# Altium schematic symbol library Chip Resistor - Surface Mount.SchLib: 8 symbols
Pins are listed as number, name and electrical type; pins without a type are passive.

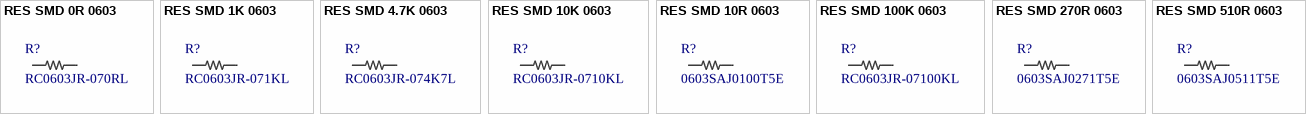
[diagram p0: symbols RES SMD 0R 0603 to RES SMD 510R 0603]

## RES SMD 0R 0603
designator R?, comment RC0603JR-070RL
Zero Ohm Resistor, Jumper, 0603 [1608 Metric], Thick Film, 100 mW, 1 A, Surface Mount; Manufacturer: Yageo; Resistance: 0mR; Tolerance: 1%; Power Rating: 100mW; Voltage Rating (DC): 50V; Temperature Coefficient: 200ppm/°C; Resistance Tolerance: 5%; Designed: Ferdi; Supplier 1: Digi-Key; Manufacturer Part Number: RC0603JR-070RL; RoHS: Yes; Category: Chip SMD Resistors; Stock 1: 445569; Pricing 1: 1=0,1, 10=0,015, 25=0,0112, 50=0,0086, 100=0,006, 250=0,0048, 500=0,00386, 1000=0,00284 (USD); Case/Package: 0603; Number of Pins: 2; Contact Plating: Tin,Matte; Case Code (Imperial): 0603; Case Code (Metric): 1608; Size Code: 0603; Min Operating Temperature: -55°C; Max Operating Temperature: 155°C; Resistor Type: Thick Film; Packaging: Tape and Reel; Termination: SMD/SMT; Series: RC; Technology: THICK FILM; Package Quantity: 5000; Voltage Rating: 50V; Features: Moisture Resistant; Max Power Dissipation: 100mW; Number of Terminations: 2; Construction: Rectangular; Length: 1.6mm; Width: 0.8mm; Height: 0.45mm; Depth: 0.8mm; RoHS Compliant: Yes; Reach SVHC Compliant: Unknown; Lead Free: 5697LeadFree; Military Standard: Not; Supplier Part Number 1: 311-0.0GRCT-ND
footprint R0603 (Surface Mount Resıstor)
pins: 1, 2

## RES SMD 1K 0603
designator R?, comment RC0603JR-071KL
SMD Chip Resistor, 1 kOhm, ± 5%, 100 mW, 0603 [1608 Metric], Thick Film, General Purpose; Manufacturer: Yageo; Resistance: 1kR; Temperature Coefficient: 100ppm/°C; Voltage Rating (DC): 50V; Power Rating: 100mW; Body Length: 1.6mm; Designed: Ferdi; Supplier 1: Digi-Key; Manufacturer Part Number: RC0603JR-071KL; RoHS: Yes; Category: Chip SMD Resistors; Stock 1: 1364040; Pricing 1: 1=0,1, 10=0,015, 50=0,0092, 100=0,0076, 500=0,00512, 1000=0,00437 (USD); Case/Package: 0603; Number of Pins: 2; Contact Plating: Tin,Matte; Case Code (Imperial): 0603; Case Code (Metric): 1608; Size Code: 0603; Min Operating Temperature: -55°C; Max Operating Temperature: 155°C; Tolerance: 5%; Resistor Type: Thick Film; Packaging: Tape and Reel; Package Quantity: 5000; Voltage Rating: 50V; Termination: SMD/SMT; Series: RC; Resistance Tolerance: 5%; Construction: Rectangular; Max Power Dissipation: 100mW; Number of Terminations: 2; Voltage Rating (AC): 50V; Length: 1.6mm; Width: 0.8mm; Height: 0.45mm; Depth: 0.8mm; Reach SVHC Compliant: No; Lead Free: 5697LeadFree; Military Standard: Not; RoHS Compliant: Yes; Supplier Part Number 1: 311-1.0KGRCT-ND
footprint R0603 (Surface Mount Resıstor)
pins: 1, 2

## RES SMD 4.7K 0603
designator R?, comment RC0603JR-074K7L
SMD Chip Resistor, 4.7 kOhm, ± 5%, 100 mW, 0603 [1608 Metric], Thick Film, General Purpose; Manufacturer: Yageo; Voltage Rating (DC): 50V; Resistance: 4.7kR; Temperature Coefficient: 100ppm/°C; Power Rating: 100mW; Designed: Ferdi; Supplier 1: Digi-Key; Manufacturer Part Number: RC0603JR-074K7L; RoHS: Yes; Category: Chip SMD Resistors; Stock 1: 6637574; Pricing 1: 1=0,1, 10=0,015, 50=0,0092, 100=0,0076, 500=0,00512, 1000=0,00437 (USD); Case/Package: 0603; Number of Pins: 2; Case Code (Imperial): 0603; Case Code (Metric): 1608; Size Code: 0603; Min Operating Temperature: -55°C; Max Operating Temperature: 155°C; Resistor Type: Thick Film; Tolerance: 5%; Packaging: Tape and Reel; Voltage Rating: 50V; Termination: SMD/SMT; Features: Moisture Resistant; Max Power Dissipation: 100mW; Number of Terminations: 2; Series: RC; Resistance Tolerance: 5%; Construction: Rectangular; Voltage Rating (AC): 50V; Length: 1.6mm; Width: 0.8mm; Depth: 0.8mm; Reach SVHC Compliant: No; RoHS Compliant: Yes; Military Standard: Not; ComponentLink1URL: https://datasheet.ciiva.com/46412/443971-46412858.pdf?src-supplier=Element14; ComponentLink1Description: https://datasheet.ciiva.com/46412/443971-46412858.pdf?src-supplier=Element14; Supplier Part Number 1: 311-4.7KGRCT-ND
footprint R0603 (Surface Mount Resıstor)
pins: 1, 2

## RES SMD 10K 0603
designator R?, comment RC0603JR-0710KL
SMD Chip Resistor, 10 kOhm, ± 5%, 100 mW, 0603 [1608 Metric], Thick Film, General Purpose; Manufacturer: Yageo; Resistance: 10kR; Temperature Coefficient: 100ppm/°C; Max Power Dissipation: 100mW; Voltage Rating (AC): 50V; Designed: Ferdi; Supplier 1: Digi-Key; Manufacturer Part Number: RC0603JR-0710KL; RoHS: Yes; Category: Chip SMD Resistors; Stock 1: 3680045; Pricing 1: 1=0,1, 10=0,015, 50=0,0092, 100=0,0076, 500=0,00512, 1000=0,00437 (USD); Case/Package: 0603; Min Operating Temperature: -55°C; Max Operating Temperature: 155°C; Tolerance: 5%; Number of Terminations: 2; Series: RC; Reach SVHC Compliant: 4187SVHC; Lead Free: 5697LeadFree; RoHS Compliant: Yes; ComponentLink1URL: https://datasheet.ciiva.com/2452/pyu-rc-group-51-rohs-l-10-2452848.pdf?src-supplier=Digi-Key; ComponentLink1Description: https://datasheet.ciiva.com/2452/pyu-rc-group-51-rohs-l-10-2452848.pdf?src-supplier=Digi-Key; Supplier Part Number 1: 311-10KGRCT-ND
footprint R0603 (Surface Mount Resıstor)
pins: 1, 2

## RES SMD 10R 0603
designator R?, comment 0603SAJ0100T5E
SMD Resistor Dimensions L x W x H: 1.6 x 0.8 x 0.45 mm Temperature range: -55 ... 155 °C Construction form: 0603...; Manufacturer: Royal Electronic Factory; Designed: Ferdi; Supplier 1: Mouser; Manufacturer Part Number: 0603SAJ0100T5E; RoHS: Yes; Pricing 1: 10000=0,001 (USD); ComponentLink1URL: https://datasheet.octopart.com/0603SAJ0100T5E-Royal-Ohm-datasheet-165785611.pdf?src-supplier=TME; ComponentLink1Description: https://datasheet.octopart.com/0603SAJ0100T5E-Royal-Ohm-datasheet-165785611.pdf?src-supplier=TME; Supplier Part Number 1: 303-0603SAJ0100T5E
footprint R0603 (Surface Mount Resıstor)
pins: 1, 2

## RES SMD 100K 0603
designator R?, comment RC0603JR-07100KL
SMD Chip Resistor, 100 kOhm, ± 5%, 100 mW, 0603 [1608 Metric], Thick Film, General Purpose; Manufacturer: Yageo; Resistance: 100kR; Temperature Coefficient: 100ppm/°C; Voltage Rating: 50V; Power Rating: 100mW; Designed: Ferdi; Supplier 1: Digi-Key; Manufacturer Part Number: RC0603JR-07100KL; RoHS: Yes; Category: Chip SMD Resistors; Stock 1: 3145919; Pricing 1: 1=0,1, 10=0,015, 50=0,0092, 100=0,0076, 500=0,00512, 1000=0,00437 (USD); Case/Package: 0603; Number of Pins: 2; Contact Plating: Tin,Matte; Case Code (Imperial): 0603; Case Code (Metric): 1608; Size Code: 0603; Min Operating Temperature: -55°C; Max Operating Temperature: 155°C; Tolerance: 5%; Resistor Type: Thick Film; Packaging: Tape and Reel; Voltage Rating (DC): 50V; Termination: SMD/SMT; Features: Moisture Resistant; Series: RC; Max Power Dissipation: 100mW; Number of Terminations: 2; Resistance Tolerance: 5%; Voltage Rating (AC): 50V; Width: 0.8mm; Reach SVHC Compliant: No; Lead Free: Lead Free; RoHS Compliant: Yes; ComponentLink1URL: https://datasheet.ciiva.com/7983/443971-7983686.pdf?src-supplier=Element14; ComponentLink1Description: https://datasheet.ciiva.com/7983/443971-7983686.pdf?src-supplier=Element14; ComponentLink2URL: https://datasheet.ciiva.com/7746/443971-7746423.pdf?src-supplier=Element14; ComponentLink2Description: https://datasheet.ciiva.com/7746/443971-7746423.pdf?src-supplier=Element14; ComponentLink3URL: https://datasheet.ciiva.com/7746/443971-7746424.pdf?src-supplier=Element14; ComponentLink3Description: https://datasheet.ciiva.com/7746/443971-7746424.pdf?src-supplier=Element14; ComponentLink4URL: https://datasheet.ciiva.com/8887/pyu-rc0603-51-rohs-l-4-8887903.pdf?src-supplier=Avnet; ComponentLink4Description: https://datasheet.ciiva.com/8887/pyu-rc0603-51-rohs-l-4-8887903.pdf?src-supplier=Avnet; Supplier Part Number 1: 311-100KGRCT-ND
footprint R0603 (Surface Mount Resıstor)
pins: 1, 2

## RES SMD 270R 0603
designator R?, comment 0603SAJ0271T5E
0603 270±5% SMD Resistor; Manufacturer: Royal Electronic Factory; Designed: Ferdi; Supplier 1: Mouser; Manufacturer Part Number: 0603SAJ0271T5E; RoHS: Yes; Pricing 1: 10000=0,001 (USD); Supplier Part Number 1: 303-0603SAJ0271T5E
footprint R0603 (Surface Mount Resıstor)
pins: 1, 2

## RES SMD 510R 0603
designator R?, comment 0603SAJ0511T5E
Chip Resistor; SMD; 0603; 510R; 5%; 1/10W; Manufacturer: Royal Electronic Factory; Temperature Coefficient: 100ppm/°C; Designed: Ferdi; Supplier 1: Mouser; Manufacturer Part Number: 0603SAJ0511T5E; RoHS: Yes; Category: Uncategorized; Pricing 1: 10000=0,001 (USD); Resistance: 510R; ComponentLink1URL: https://datasheet.octopart.com/0603SAJ0511T5E-Royal-Ohm-datasheet-165785611.pdf?src-supplier=TME; ComponentLink1Description: https://datasheet.octopart.com/0603SAJ0511T5E-Royal-Ohm-datasheet-165785611.pdf?src-supplier=TME; Supplier Part Number 1: 303-0603SAJ0511T5E
footprint R0603 (Surface Mount Resıstor)
pins: 1, 2